# EAGLE library part M0_TRINKET (library Xia_ENGI301_PCB)
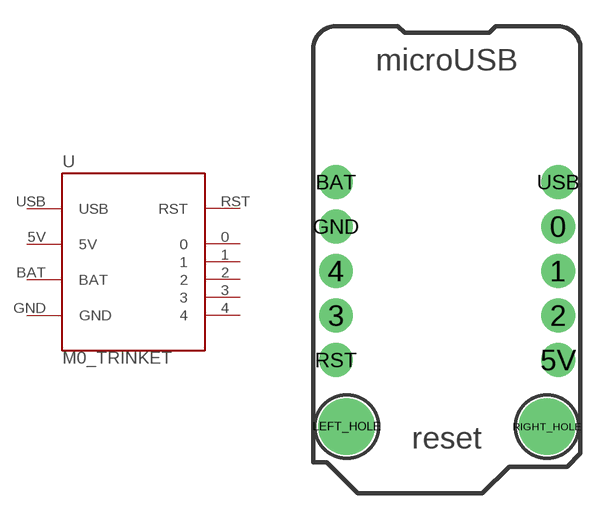
[diagram p0: symbol with the pads of M0_TRINKET; footprint M0_TRINKET]

Designator prefix U

## M0_TRINKET  [M0_TRINKET]
0  0
1  1
2  2
3  3
4  4
5V  5V  pwr
BAT  BAT  pwr
GND  GND  pwr
RST  RST
USB  USB

## Footprint M0_TRINKET (pad centres in mm)
Package generated by make-group2pac.ulp from: C:/Users/xiaje/OneDrive - Rice University/Rice/Semester 6/ENGI 301/00 Project 2/Trinket/Trinket M0 rev D.brd at: 4/28/2022 8:38 PM
drill 1 pad 1.93: 0 6.35,1.27; 1 6.35,-1.27; 2 6.35,-3.81; 3 -6.325,-3.81; 4 -6.325,-1.27; 5V 6.35,-6.35; BAT -6.325,3.81; GND -6.325,1.27; RST -6.325,-6.35; USB 6.35,3.81
drill 2.2 pad 3: LEFT_HOLE -5.715,-10.16; RIGHT_HOLE 5.715,-10.16